# Altium footprint library TSOT26.PcbLib: 1 footprints
Each footprint in its own frame and in the unit in brackets; x right, y up, seen from the top. Pads: shape width x height; smd on the part's side, far side on the other; paste and mask are expansions set on the pad; w line width, h text height; cw(c..) or ccw(c..) is an arc to the next point about the centre after c.
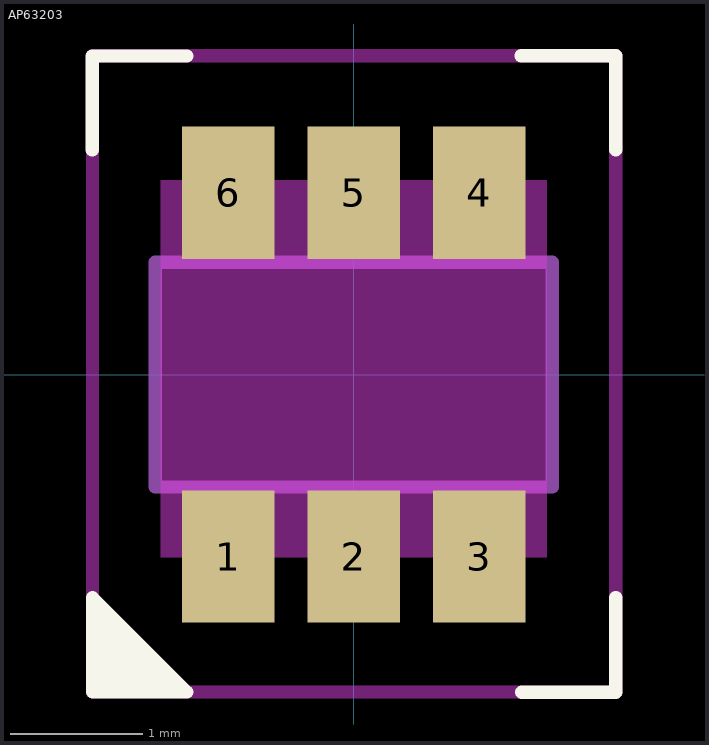
[diagram p0: the footprint, top view; thin cyan lines are the x and y axes]

## AP63203 [mm]
pads (6):
  rect 0.7x1 smd: 1(-0.95,-1.375) 2(0,-1.375) 3(0.95,-1.375) 4(0.95,1.375) 5(0,1.375) 6(-0.95,1.375)
Top Overlay:
  region: -1.975,-1.685 -1.975,-2.399 -1.261,-2.399
  lines w0.1: -1.977,1.698 -1.977,2.408 -1.262,2.408 ; 1.265,2.41 1.98,2.41 1.98,1.7 ; 1.27,-2.4 1.98,-2.4 1.98,-1.685 ; -1.975,-2.399 -1.261,-2.399 -1.975,-1.685 -1.975,-2.399
Keep-Out Layer:
  region: -1.46,1.47 1.46,1.47 1.46,-1.38 -1.46,-1.38
  lines w0.1: -1.975,-2.399 -1.975,2.41 1.981,2.41 1.981,-2.399 -1.975,-2.399
Mechanical 1:
  lines w0.1: -1.5,-0.85 1.5,-0.85 1.5,0.85 -1.5,0.85 -1.5,-0.85
Mechanical 13:
  region: -0.7,0.85 -1.2,0.85 -1.2,1.5 -0.7,1.5
  region: 0.25,0.85 -0.25,0.85 -0.25,1.5 0.25,1.5
  region: 0.25,-1.5 -0.25,-1.5 -0.25,-0.85 0.25,-0.85
  region: -0.7,-1.5 -1.2,-1.5 -1.2,-0.85 -0.7,-0.85
  region: 1.2,-1.5 0.7,-1.5 0.7,-0.85 1.2,-0.85
  region: 1.2,0.85 0.7,0.85 0.7,1.5 1.2,1.5
3D body "sot-23-6.stp": height 1.12, standoff 0, extent -1.458,-1.375 1.463,1.47